# Altium footprint library DE-211024.PcbLib: 131 footprints (part 7 of 9)
Each footprint in its own frame and in the unit in brackets; x right, y up, seen from the top. Pads: shape width x height; smd on the part's side, far side on the other; paste and mask are expansions set on the pad; w line width, h text height; cw(c..) or ccw(c..) is an arc to the next point about the centre after c.
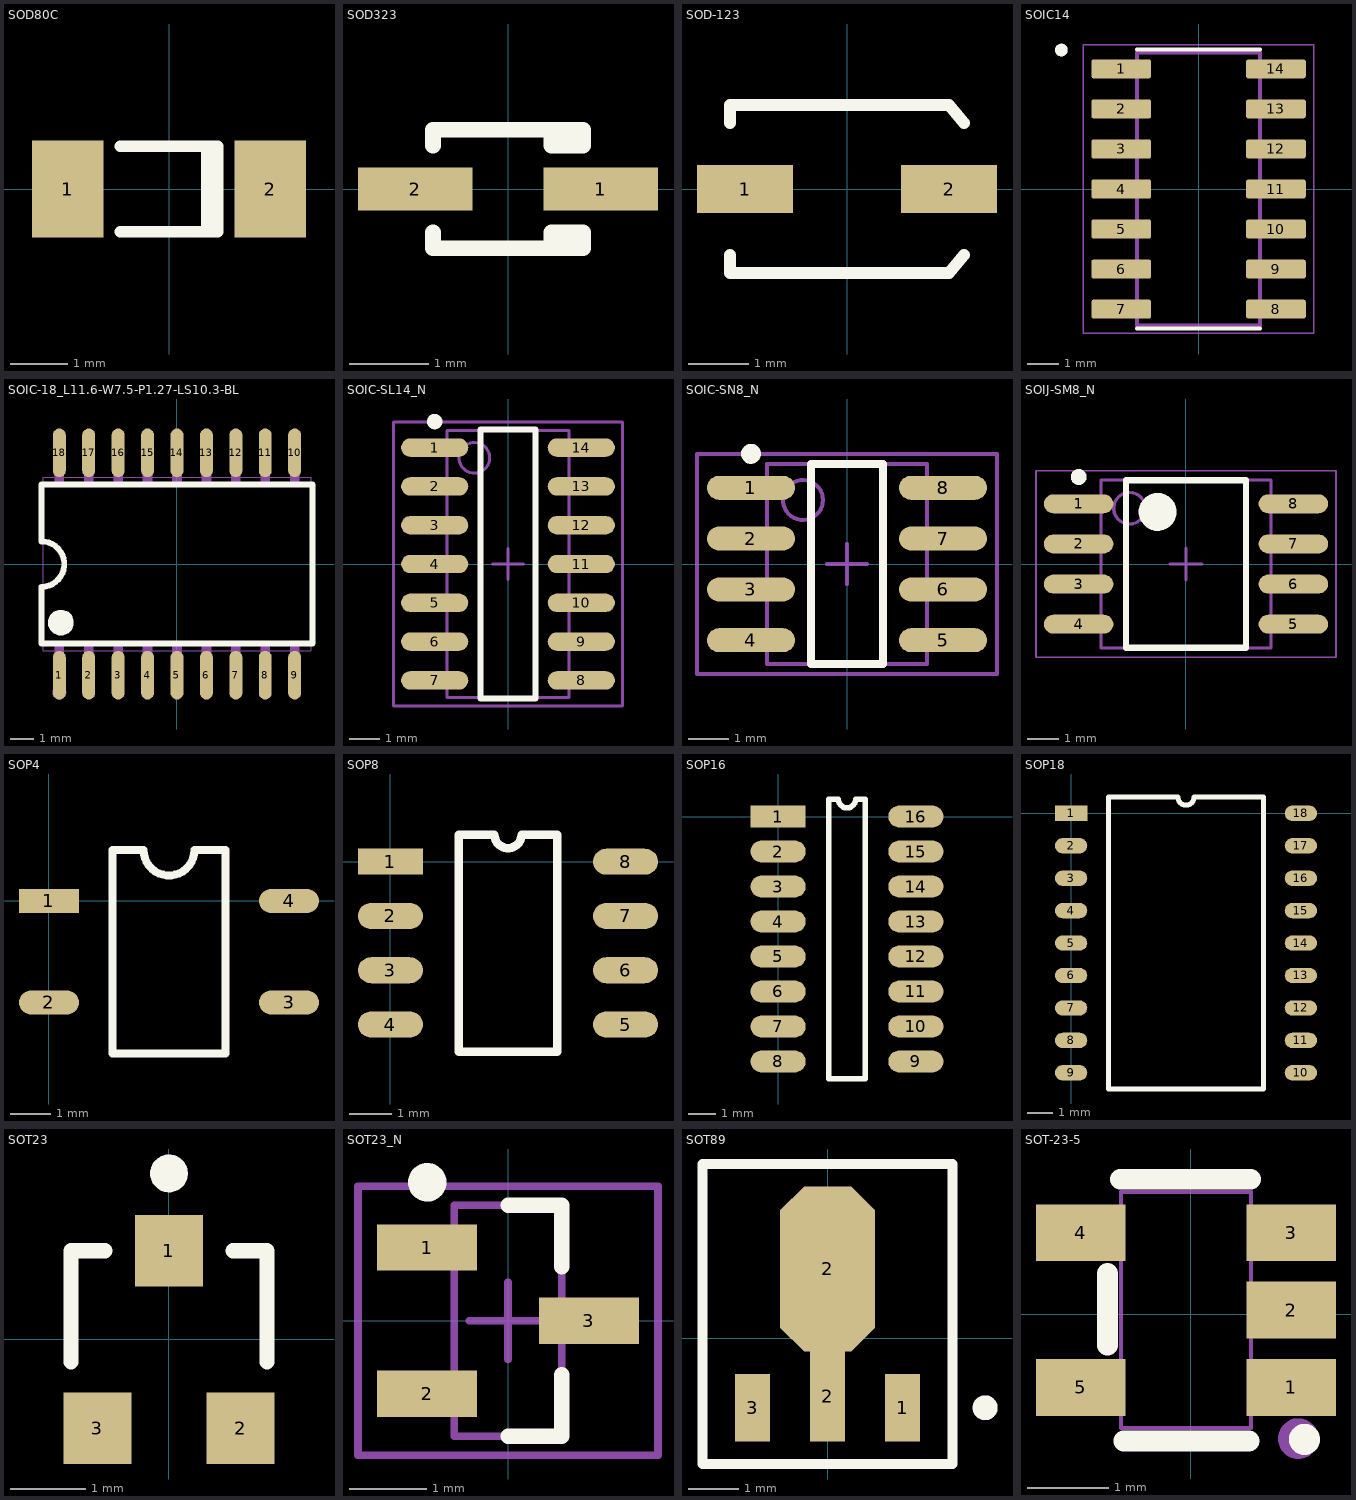
[diagram p6: the footprints below, top view; thin cyan lines are the x and y axes]

## SOD80C [mm] "Metal Electrode Face (MELF) Diode; Body 3.5 x 1.6 mm (LxDia)"
height 1.6
pads (2):
  rect 1.25x1.7 smd: 1(-1.775,0) 2(1.775,0)
Top Overlay:
  lines w0.2: -0.85,-0.75 0.85,-0.75 0.85,0.75 -0.85,0.75 ; 0.66,-0.75 0.66,0.75

## SOD323 [mm] "SOD-323/SC-76; 2 Leads; Body 1.7 x 1.3 mm, (LxW)"
height 1.1
pads (2):
  rect 1.45x0.55 smd: 1(1.175,0) 2(-1.175,0)
Top Overlay:
  lines w0.2: -0.95,-0.55 -0.95,-0.75 0.95,-0.75 0.95,-0.55 0.55,-0.55 0.55,-0.75 ; -0.95,0.55 -0.95,0.75 0.95,0.75 0.95,0.55 0.55,0.55 0.55,0.75

## SOD-123 [mm] "SOD-123; 2 Leads; Body 2.7 x 1.6 mm, (LxW)"
height 1.35
pads (2):
  rect 1.6x0.8 smd: 1(-1.7,0) 2(1.7,0)
Top Overlay:
  lines w0.2: -1.95,-1.098 -1.95,-1.4 1.7,-1.4 1.95,-1.098 ; -1.95,1.098 -1.95,1.4 1.7,1.4 1.95,1.098

## SOIC14 [mm]
height 1.75
pads (14):
  rrect25% 1.9x0.6 smd: 1(-2.455,3.81) 2(-2.455,2.54) 3(-2.455,1.27) 4(-2.455,0) 5(-2.455,-1.27) 6(-2.455,-2.54) 7(-2.455,-3.81) 8(2.455,-3.81) 9(2.455,-2.54) 10(2.455,-1.27) 11(2.455,0) 12(2.455,1.27) 13(2.455,2.54) 14(2.455,3.81)
Top Overlay:
  circle w0.2: c-4.355,4.41 r0.1
  lines w0.127: -1.95,-4.43 1.95,-4.43 ; -1.95,4.43 1.95,4.43
Mechanical 13:
  circle w0.2: c-4.355,4.41 r0.1
  lines w0.127: -1.95,-4.325 1.95,-4.325 1.95,4.325 -1.95,4.325 -1.95,-4.325
Mechanical 15:
  lines w0.05: -3.655,-4.575 3.655,-4.575 3.655,4.575 -3.655,4.575 -3.655,-4.575
3D body "step_temp.STEP": height 1.75, standoff 0, extent -3,-4.325 3,4.325

## SOIC-18_L11.6-W7.5-P1.27-LS10.3-BL [mm] ";SOIC-18-300mil;SOIC-18;SOP-18-300mil;SOIC-18_300mil;SO-18;SW-18;SOP-18;SOIC-18-W;-;SO-18-300mil"
pads (18):
  oval 0.56x2.1 smd: 1(-5.08,-4.792) 2(-3.81,-4.792) 3(-2.54,-4.792) 4(-1.27,-4.792) 5(0,-4.792) 6(1.27,-4.792) 7(2.54,-4.792) 8(3.81,-4.792) 9(5.08,-4.792) 10(5.08,4.808) 11(3.81,4.808) 12(2.54,4.808) 13(1.27,4.808) 14(0,4.808) 15(-1.27,4.808) 16(-2.54,4.808) 17(-3.81,4.808) 18(-5.08,4.808)
Top Overlay:
  region: -5.55,-2.522 -5.551,-2.414 -5.469,-2.214 -5.317,-2.061 -5.118,-1.978 -4.902,-1.978 -4.703,-2.061 -4.551,-2.214 -4.469,-2.414 -4.47,-2.522 -4.469,-2.63 -4.551,-2.83 -4.703,-2.983 -4.902,-3.066 -5.118,-3.066 -5.317,-2.983 -5.469,-2.83 -5.551,-2.63 -5.55,-2.522
  lines w0.254: -5.842,-1.003 -5.842,-3.421 5.842,-3.421 5.842,3.437 -5.842,3.437 -5.842,0.981 cw(c-5.842,0.003) -5.842,-0.975
Mechanical 6:
  circle w0.3: c-5.08,-5.542 r0.15
Mechanical 15:
  drawing of 41 lines, arcs and shapes, not listed

## SOIC-SL14_N [mm] "SOIC, 14-Leads, Body 8.7x3.9mm, Pitch 1.27mm, IPC Medium Density"
height 1.75
pads (14):
  oval 2.2x0.6 smd: 1(-2.4,3.81) 2(-2.4,2.54) 3(-2.4,1.27) 4(-2.4,0) 5(-2.4,-1.27) 6(-2.4,-2.54) 7(-2.4,-3.81) 8(2.4,-3.81) 9(2.4,-2.54) 10(2.4,-1.27) 11(2.4,0) 12(2.4,1.27) 13(2.4,2.54) 14(2.4,3.81)
Top Overlay:
  circle w0.25: c-2.4,4.66 r0.125
  lines w0.2: -0.9,-4.4 0.9,-4.4 0.9,4.4 -0.9,4.4 -0.9,-4.4
Mechanical 13:
  circle w0.1: c-1.1,3.475 r0.5
  lines w0.1: -2,-4.375 2,-4.375 2,4.375 -2,4.375 -2,-4.375
Mechanical 15:
  lines w0.1: -0.5,0 0.5,0 ; 0,-0.5 0,0.5 ; -3.75,-4.65 3.75,-4.65 3.75,4.65 -3.75,4.65 -3.75,-4.65
3D body: height 1.75, standoff 0, extent -2,-4.375 2,4.375

## SOIC-SN8_N [mm] "SOIC, 8-Leads, Body 4.9x3.8mm, Pitch 1.27mm, IPC Medium Density"
height 1.75
pads (8):
  oval 2.2x0.6 smd: 1(-2.4,1.905) 2(-2.4,0.635) 3(-2.4,-0.635) 4(-2.4,-1.905) 5(2.4,-1.905) 6(2.4,-0.635) 7(2.4,0.635) 8(2.4,1.905)
Top Overlay:
  circle w0.25: c-2.4,2.755 r0.125
  lines w0.2: -0.9,-2.5 -0.9,2.5 0.9,2.5 0.9,-2.5 -0.9,-2.5
Mechanical 13:
  circle w0.1: c-1.1,1.6 r0.5
  lines w0.1: -2,-2.5 -2,2.5 2,2.5 2,-2.5 -2,-2.5
Mechanical 15:
  lines w0.1: -0.5,0 0.5,0 ; 0,-0.5 0,0.5 ; -3.75,-2.75 -3.75,2.75 3.75,2.75 3.75,-2.75 -3.75,-2.75
3D body: height 1.75, standoff 0, extent -2,-2.5 2,2.5

## SOIJ-SM8_N [mm] "SOP, 8-Leads, Body 5.2x5.2mm, Pitch 1.27mm, IPC Medium Density"
height 2.04
pads (8):
  oval 2.2x0.6 smd: 1(-3.4,1.905) 2(-3.4,0.635) 3(-3.4,-0.635) 4(-3.4,-1.905) 5(3.4,-1.905) 6(3.4,-0.635) 7(3.4,0.635) 8(3.4,1.905)
Top Overlay:
  circle w0.25: c-3.4,2.755 r0.125
  circle w0.6: c-0.9,1.65 r0.3
  lines w0.2: -1.9,-2.65 -1.9,2.65 1.9,2.65 1.9,-2.65 -1.9,-2.65
Mechanical 13:
  circle w0.1: c-1.79,1.765 r0.5
  lines w0.1: -2.69,-2.665 -2.69,2.665 2.69,2.665 2.69,-2.665 -2.69,-2.665
Mechanical 15:
  lines w0.05: -4.75,-2.95 -4.75,2.95 4.75,2.95 4.75,-2.95 -4.75,-2.95
  lines w0.1: -0.5,0 0.5,0 ; 0,-0.5 0,0.5
3D body: height 2.04, standoff 0.05, extent -2.69,-2.665 2.69,2.665

## SOP4 [mm]
height 10
pads (4):
  rect 1.5x0.6 smd: 1(0,0)
  oval 1.5x0.6 smd: 2(0,-2.54) 3(6,-2.54) 4(6,0)
Top Overlay:
  lines w0.2: 1.585,-3.81 1.585,1.27 2.365,1.27 ccw(c3,1.27) 3.635,1.27 4.415,1.27 4.415,-3.81 1.585,-3.81

## SOP8 [mm]
pads (8):
  rect 1.52x0.61 smd: 1(0,0)
  oval 1.52x0.61 smd: 2(0,-1.27) 3(0,-2.54) 4(0,-3.81) 5(5.5,-3.81) 6(5.5,-2.54) 7(5.5,-1.27) 8(5.5,0)
Top Overlay:
  lines w0.2: 1.595,-4.445 3.905,-4.445 3.905,0.635 3.067,0.635 cw(c2.75,0.635) 2.432,0.635 1.595,0.635 1.595,-4.445

## SOP16 [mm]
pads (16):
  rect 2x0.8 smd: 1(0,0)
  oval 2x0.8 smd: 2(0,-1.27) 3(0,-2.54) 4(0,-3.81) 5(0,-5.08) 6(0,-6.35) 7(0,-7.62) 8(0,-8.89) 9(5,-8.89) 10(5,-7.62) 11(5,-6.35) 12(5,-5.08) 13(5,-3.81) 14(5,-2.54) 15(5,-1.27) 16(5,0)
Top Overlay:
  lines w0.2: 1.835,-9.525 1.835,0.635 2.183,0.635 ccw(c2.5,0.635) 2.818,0.635 3.165,0.635 3.165,-9.525 1.835,-9.525
3D body: height 1.75, standoff 0.2, extent 0.381,-9.525 4.699,0.635

## SOP18 [mm]
pads (18):
  rect 1.27x0.6 smd: 1(0,0)
  oval 1.27x0.6 smd: 2(0,-1.27) 3(0,-2.54) 4(0,-3.81) 5(0,-5.08) 6(0,-6.35) 7(0,-7.62) 8(0,-8.89) 9(0,-10.16) 10(9,-10.16) 11(9,-8.89) 12(9,-7.62) 13(9,-6.35) 14(9,-5.08) 15(9,-3.81) 16(9,-2.54) 17(9,-1.27) 18(9,0)
Top Overlay:
  lines w0.2: 1.47,-10.795 7.53,-10.795 7.53,0.635 4.817,0.635 cw(c4.5,0.635) 4.182,0.635 1.47,0.635 1.47,-10.795

## SOT23 [mm] "SOT-23; 3 Leads; Body 3.1 x 2.5 mm, inc. leads (LxW max), Alternate Lead Configuration"
height 1.1
pads (3):
  rect 0.9x0.95 smd: 1(0,1.175) 2(0.95,-1.175) 3(-0.95,-1.175)
Top Overlay:
  circle w0.25: c0,2.2 r0.125
  lines w0.2: -1.3,-0.3 -1.3,1.175 -0.85,1.175 ; 0.85,1.175 1.3,1.175 1.3,-0.3

## SOT23_N [mm] "SOT23, 3-Leads, Body 2.9x1.3mm, Pitch 0.95mm, Lead Span 2.3mm, IPC Medium Density"
height 1.1
pads (3):
  rect 1.3x0.6 smd: 1(-1.05,0.95) 2(-1.05,-0.95) 3(1.05,0)
Top Overlay:
  circle w0.25: c-1.05,1.8 r0.125
  lines w0.2: 0,-1.5 0.7,-1.5 0.7,-0.7 ; 0,1.5 0.7,1.5 0.7,0.7
Mechanical 13:
  lines w0.1: -0.7,-1.5 -0.7,1.5 0.7,1.5 0.7,-1.5 -0.7,-1.5
Mechanical 15:
  lines w0.1: -0.5,0 0.5,0 ; 0,-0.5 0,0.5 ; -1.95,-1.75 -1.95,1.75 1.95,1.75 1.95,-1.75 -1.95,-1.75
3D body: height 1.1, standoff 0, extent -0.7,-1.5 0.7,1.5

## SOT89 [mm] "SOT-89; Body 4.6 x 4.25 mm, inc. leads (LxW max); Reverse Pinning"
height 1.6
pads (4):
  rect 0.7x1.35 smd: 1(1.5,-1.388) 3(-1.5,-1.388)
  rect 0.7x1.8 smd: 2(0,-1.162)
  oct 1.9x3.3 smd: 2(0,1.388)
Top Overlay:
  circle w0.25: c3.15,-1.388 r0.125
  lines w0.2: -2.5,-2.512 -2.5,3.487 2.5,3.487 2.5,-2.512 -2.5,-2.512

## SOT-23-5 [mm] "SMD package"
pads (5):
  rect 1.1x0.7 smd paste+0 mask+0.051: 1(1.233,-0.897) 2(1.233,0.053) 3(1.233,1.005) 4(-1.355,1.005) 5(-1.355,-0.895)
Top Overlay:
  circle w0.254: c1.395,-1.535 r0.064
  lines w0.254: -1.027,-0.379 -1.027,0.505 ; -0.867,1.663 0.733,1.663 ; -0.827,-1.555 0.713,-1.555
Mechanical 6:
  circle w0.25: c1.319,-1.526 r0.125
Mechanical 15:
  region: 0.814,-1.097 0.814,-0.697 1.339,-0.697 1.339,-1.097
  region: 0.729,-1.097 0.729,-0.697 0.824,-0.697 0.824,-1.097
  region: 0.814,-0.147 0.814,0.253 1.339,0.253 1.339,-0.147
  region: 0.729,-0.147 0.729,0.253 0.824,0.253 0.824,-0.147
  region: 0.814,0.805 0.814,1.205 1.339,1.205 1.339,0.805
  region: 0.729,0.805 0.729,1.205 0.824,1.205 0.824,0.805
  region: -1.461,0.805 -1.461,1.205 -0.936,1.205 -0.936,0.805
  region: -0.946,0.805 -0.946,1.205 -0.851,1.205 -0.851,0.805
  region: -1.461,-1.095 -1.461,-0.695 -0.936,-0.695 -0.936,-1.095
  region: -0.946,-1.095 -0.946,-0.695 -0.851,-0.695 -0.851,-1.095
  region: 1.399,-1.396 1.399,-1.371 1.364,-1.336 1.314,-1.336 1.279,-1.371 1.279,-1.396 1.279,-1.421 1.314,-1.456 1.364,-1.456 1.399,-1.421
  lines w0.051: -0.861,-1.396 -0.861,1.504 0.739,1.504 0.739,-1.396 -0.861,-1.396